# EAGLE library part ALZ1 (library Panasonic Relay)
LZ - 1 Form C - Single side stable Data sheet <https://www.panasonic-electric-works.com/eu/download.htm?id=55827> Parameters Max. switching voltage: 440 V AC Max. switching current: 16 A Operational function: Single side stable Contact arrangement: 1 CO / 1 NO Applications Household electrical appliances: TV, CATV, Audio equipment, Microwave ovens, and Heaters, etc. Office equipment: Copy machines, Packaged air conditioners, and Vending machines Industrial equipment: Machine tools, Robots, and Temperature controllers Options Available with coil insulation class B or F.
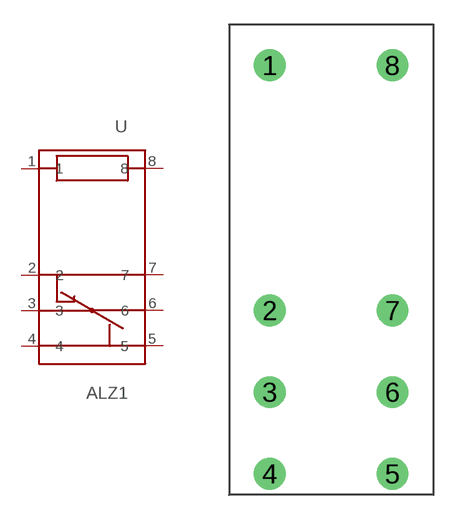
[diagram p66: symbol with the pads of LZ_1_FORM_C; footprint LZ_1_FORM_C]

Designator prefix -

## ALZ11B05 (U_COIL: 5V DC), ALZ11B09 (U_COIL: 9V DC), ALZ11B12 (U_COIL: 12V DC), ALZ11B18 (U_COIL: 18V DC), ALZ11B24 (U_COIL: 24V DC), ALZ11B48 (U_COIL: 48V DC), ALZ11F05 (U_COIL: 5V DC), ALZ11F09 (U_COIL: 9V DC), ALZ11F12 (U_COIL: 12V DC), ALZ11F18 (U_COIL: 18V DC), ALZ11F24 (U_COIL: 24V DC), ALZ11F48 (U_COIL: 48V DC), ALZ12B05 (U_COIL: 5V DC), ALZ12B09 (U_COIL: 9V DC), ALZ12B12 (U_COIL: 12V DC), ALZ12B18 (U_COIL: 18V DC), ALZ12B24 (U_COIL: 24V DC), ALZ12B48 (U_COIL: 48V DC), ALZ12F05 (U_COIL: 5V DC), ALZ12F09 (U_COIL: 9V DC), ALZ12F12 (U_COIL: 12V DC), ALZ12F18 (U_COIL: 18V DC), ALZ12F24 (U_COIL: 24V DC), ALZ12F48 (U_COIL: 48V DC)  [LZ_1_FORM_C]
1  1
2  2
3  3
4  4
5  5
6  6
7  7
8  8

## Footprint LZ_1_FORM_C (pad centres in mm)
drill 1.3: 1 -3.75,11.9; 2 -3.75,-3.1; 3 -3.75,-8.1; 4 -3.75,-13.1; 5 3.75,-13.1; 6 3.75,-8.1; 7 3.75,-3.1; 8 3.75,11.9